# Altium schematic symbol library CAP,Cer,680pF,100VDC,X7R,0603.Schlib: 1 symbol
Pins are listed as number, name and electrical type; pins without a type are passive.

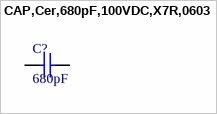
[diagram p0: symbol CAP,Cer,680pF,100VDC,X7R,0603]

## CAP,Cer,680pF,100VDC,X7R,0603
designator C?, comment 680pF
680 pF ±10% 100V Ceramic Capacitor X7R 0603 (1608 Metric)
pins: 1, 2